# EAGLE library part NC7WZ16P (library 7tiny-logic)
UHS Dual Buffer
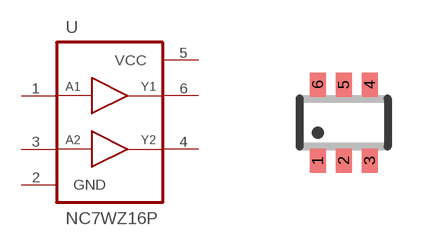
[diagram p4: symbol with the pads of SC70-6; footprint SC70-6]

Designator prefix U

## NC7WZ16P  [SC70-6]
1  A1  in
2  GND  pwr
3  A2  in
4  Y2  out
5  VCC  pwr
6  Y1  out

## Footprint SC70-6 (pad centres in mm)
SC-70 Package - Fairchild
smd 0.4 x 0.6: 1 -0.65,-0.95; 2 0,-0.95; 3 0.65,-0.95; 4 0.65,0.95; 5 0,0.95; 6 -0.65,0.95